# Altium integrated library Micron Memory SDRAM.IntLib: 192 symbols (part 12 of 38)
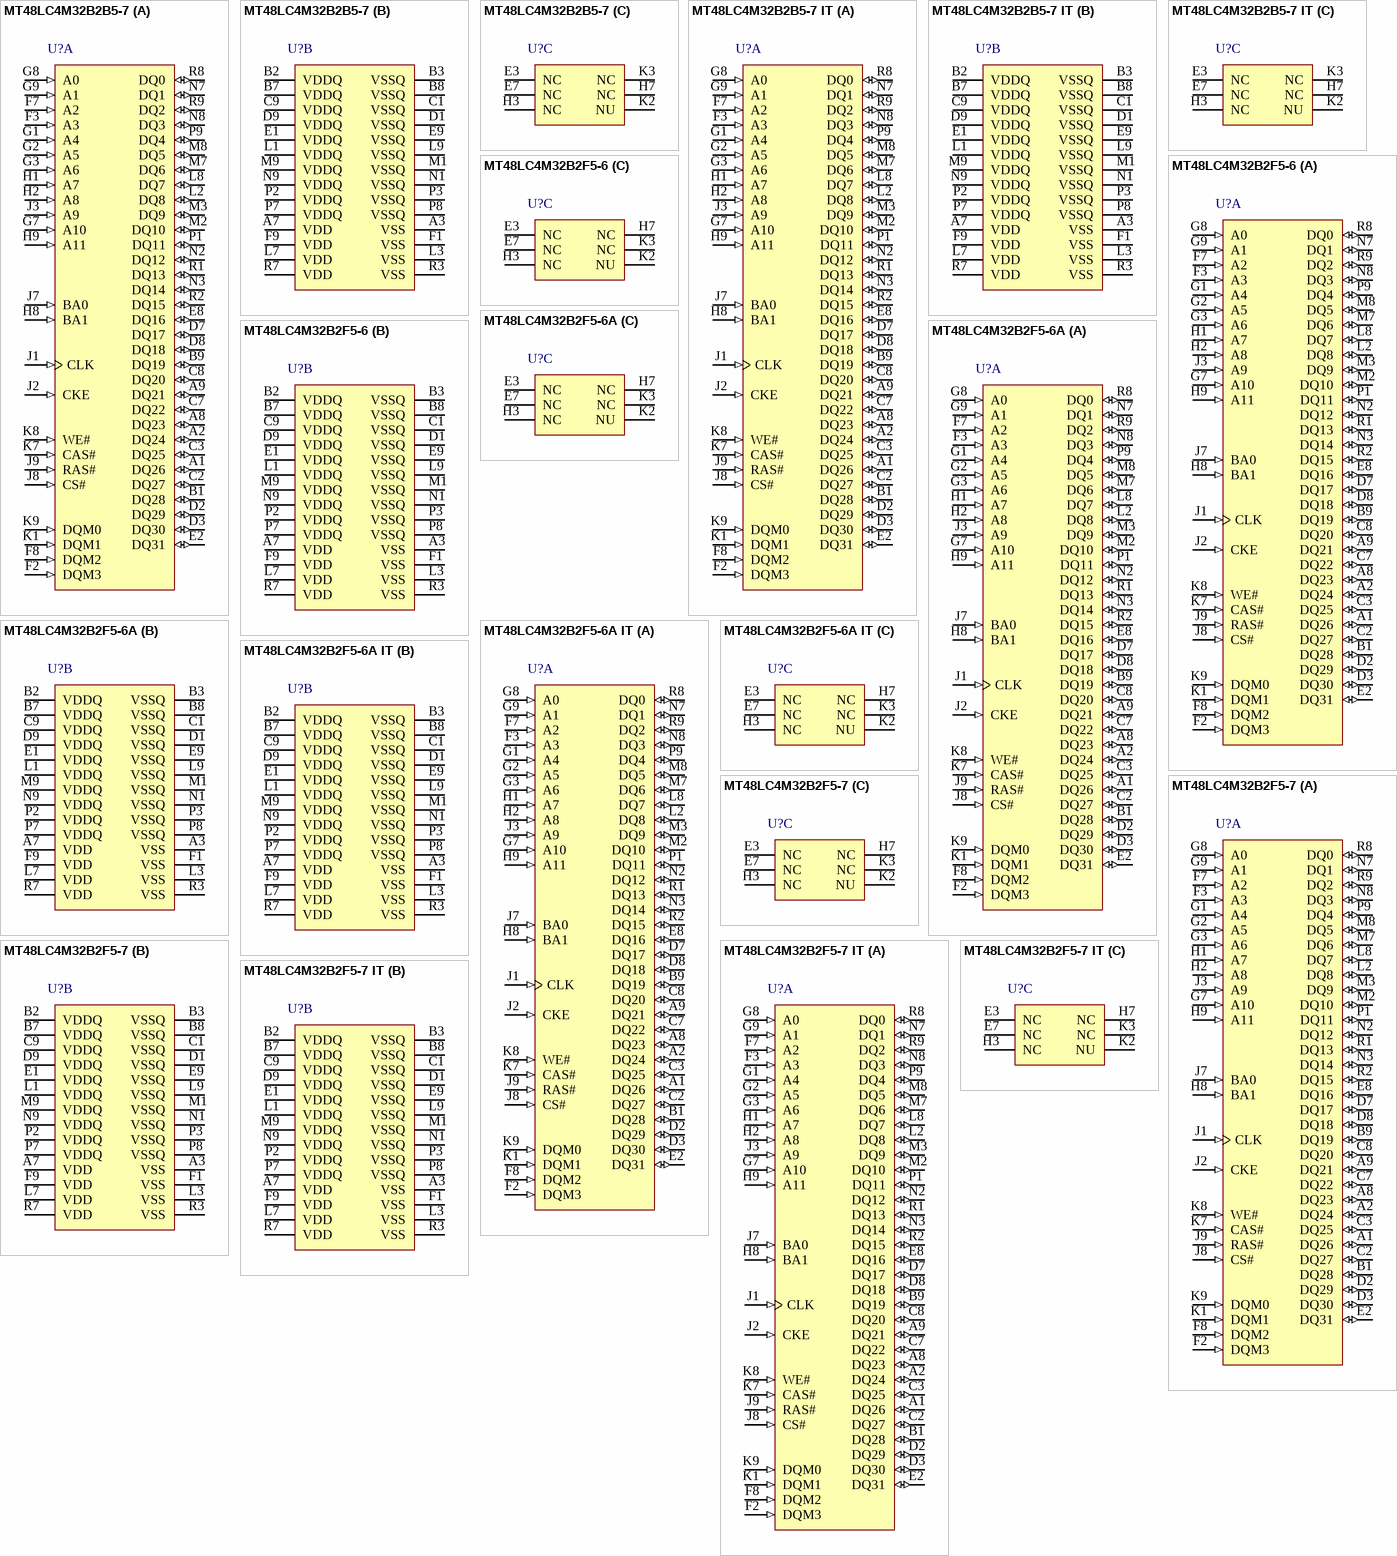
[diagram p31: symbols MT48LC4M32B2B5-7 to MT48LC4M32B2F5-7 IT]

## MT48LC4M32B2F5-6A
designator U?
128Mb PC133 SDR SDRAM, 4Mb x 32, 6ns, 3.3V, 0 to 70 degC, 90-Ball VFBGA; Manufacturer: Micron; PartNumber: MT48LC4M32B2F5-6A; CL: CL = 3; Clock Rate: 166 MHz; Op. Temp.: 0C to +70C; DatasheetVersion: Rev.Q; PackageVersion: Rev.G; PackageReference: MICT-F5-90; PackageDescription: 90-Ball Very Thin Profile Fine-Pitch Ball Grid Array, 13 x 8 mm, Pitch 0.8 mm; Cycle Time: 6ns; Data Rate: PC133; Density: 128Mb; Depth: 4Mb; RoHS: 5/6; Voltage: 3.3V; Width: x32; Mounting Technology: Surface Mount; ComponentLink1Description: Manufacturer URL; ComponentLink1URL: http://www.micron.com/; ComponentLink2Description: Datasheet; ComponentLink2URL: http://www.micron.com/~/media/Documents/Products/Data%20Sheet/DRAM/128mb_x32_sdram.pdf; ComponentLink3Description: Package Specification; ComponentLink3URL: http://www.micron.com/~/media/Documents/Products/Data%20Sheet/DRAM/128Mbx16x32Mobile.pdf
footprint MICT-F5-90 (BGA, 90-Balls, Body 13x8mm, Pitch 0.8mm)
part A pins: A1 DQ26 (io) "Data input/output: Data bus.", A2 DQ24 (io) "Data input/output: Data bus.", A8 DQ23 (io) "Data input/output: Data bus.", A9 DQ21 (io) "Data input/output: Data bus.", B1 DQ28 (io) "Data input/output: Data bus.", B9 DQ19 (io) "Data input/output: Data bus.", C2 DQ27 (io) "Data input/output: Data bus.", C3 DQ25 (io) "Data input/output: Data bus.", C7 DQ22 (io) "Data input/output: Data bus.", C8 DQ20 (io) "Data input/output: Data bus.", D2 DQ29 (io) "Data input/output: Data bus.", D3 DQ30 (io) "Data input/output: Data bus.", D7 DQ17 (io) "Data input/output: Data bus.", D8 DQ18 (io) "Data input/output: Data bus.", E2 DQ31 (io) "Data input/output: Data bus.", E8 DQ16 (io) "Data input/output: Data bus.", F2 DQM3 (in) "Input/output mask: DQM is sampled HIGH and is an input mask signal for write accesses and an output enable signal for read accesses. Input data is masked during a WRITE cycle. The output buffers are High-Z (two-clock (See Datasheet)", F3 A3 (in) "Address inputs: A[11:0] are sampled during the ACTIVE command (row address A[10:0]) and READ or WRITE command (column address A[7:0] with A10 defining auto precharge) to select one location out of the memory array in the (See Datasheet)", F7 A2 (in) "Address inputs: A[11:0] are sampled during the ACTIVE command (row address A[10:0]) and READ or WRITE command (column address A[7:0] with A10 defining auto precharge) to select one location out of the memory array in the (See Datasheet)", F8 DQM2 (in) "Input/output mask: DQM is sampled HIGH and is an input mask signal for write accesses and an output enable signal for read accesses. Input data is masked during a WRITE cycle. The output buffers are High-Z (two-clock (See Datasheet)", G1 A4 (in) "Address inputs: A[11:0] are sampled during the ACTIVE command (row address A[10:0]) and READ or WRITE command (column address A[7:0] with A10 defining auto precharge) to select one location out of the memory array in the (See Datasheet)", G2 A5 (in) "Address inputs: A[11:0] are sampled during the ACTIVE command (row address A[10:0]) and READ or WRITE command (column address A[7:0] with A10 defining auto precharge) to select one location out of the memory array in the (See Datasheet)", G3 A6 (in) "Address inputs: A[11:0] are sampled during the ACTIVE command (row address A[10:0]) and READ or WRITE command (column address A[7:0] with A10 defining auto precharge) to select one location out of the memory array in the (See Datasheet)", G7 A10 (in) "Address inputs: A[11:0] are sampled during the ACTIVE command (row address A[10:0]) and READ or WRITE command (column address A[7:0] with A10 defining auto precharge) to select one location out of the memory array in the (See Datasheet)", G8 A0 (in) "Address inputs: A[11:0] are sampled during the ACTIVE command (row address A[10:0]) and READ or WRITE command (column address A[7:0] with A10 defining auto precharge) to select one location out of the memory array in the (See Datasheet)", G9 A1 (in) "Address inputs: A[11:0] are sampled during the ACTIVE command (row address A[10:0]) and READ or WRITE command (column address A[7:0] with A10 defining auto precharge) to select one location out of the memory array in the (See Datasheet)", H1 A7 (in) "Address inputs: A[11:0] are sampled during the ACTIVE command (row address A[10:0]) and READ or WRITE command (column address A[7:0] with A10 defining auto precharge) to select one location out of the memory array in the (See Datasheet)", H2 A8 (in) "Address inputs: A[11:0] are sampled during the ACTIVE command (row address A[10:0]) and READ or WRITE command (column address A[7:0] with A10 defining auto precharge) to select one location out of the memory array in the (See Datasheet)", H8 BA1 (in) "Bank address inputs: BA[1:0] define to which bank the ACTIVE, READ, WRITE, or PRECHARGE command is being applied.", H9 A11 (in) "Address inputs: A[11:0] are sampled during the ACTIVE command (row address A[10:0]) and READ or WRITE command (column address A[7:0] with A10 defining auto precharge) to select one location out of the memory array in the (See Datasheet)", J1 CLK (in) "Clock: CLK is driven by the system clock. All SDRAM input signals are sampled on the positive edge of CLK. CLK also increments the internal burst counter and controls the output registers.", J2 CKE (in) "Clock enable: CKE activates (HIGH) and deactivates (LOW) the CLK signal. Deactivating the clock provides precharge power-down and SELF REFRESH operation (all banks idle), active power-down (row active in any bank), or CLOCK (See Datasheet)", J3 A9 (in) "Address inputs: A[11:0] are sampled during the ACTIVE command (row address A[10:0]) and READ or WRITE command (column address A[7:0] with A10 defining auto precharge) to select one location out of the memory array in the (See Datasheet)", J7 BA0 (in) "Bank address inputs: BA[1:0] define to which bank the ACTIVE, READ, WRITE, or PRECHARGE command is being applied.", J8 CS# (in) "Chip select: CS# enables (registered LOW) and disables (registered HIGH) the command decoder. All commands are masked when CS# is registered HIGH, but READ/WRITE bursts already in progress will continue, and DQM operation (See Datasheet)", J9 RAS# (in) "Command inputs: CAS#, RAS#, and WE# (along with CS#) define the command being entered.", K1 DQM1 (in) "Input/output mask: DQM is sampled HIGH and is an input mask signal for write accesses and an output enable signal for read accesses. Input data is masked during a WRITE cycle. The output buffers are High-Z (two-clock (See Datasheet)", K7 CAS# (in) "Command inputs: CAS#, RAS#, and WE# (along with CS#) define the command being entered.", K8 WE# (in) "Command inputs: CAS#, RAS#, and WE# (along with CS#) define the command being entered.", K9 DQM0 (in) "Input/output mask: DQM is sampled HIGH and is an input mask signal for write accesses and an output enable signal for read accesses. Input data is masked during a WRITE cycle. The output buffers are High-Z (two-clock (See Datasheet)", L2 DQ8 (io) "Data input/output: Data bus.", L8 DQ7 (io) "Data input/output: Data bus.", M2 DQ10 (io) "Data input/output: Data bus.", M3 DQ9 (io) "Data input/output: Data bus.", M7 DQ6 (io) "Data input/output: Data bus.", M8 DQ5 (io) "Data input/output: Data bus.", N2 DQ12 (io) "Data input/output: Data bus.", N3 DQ14 (io) "Data input/output: Data bus.", N7 DQ1 (io) "Data input/output: Data bus.", N8 DQ3 (io) "Data input/output: Data bus.", P1 DQ11 (io) "Data input/output: Data bus.", P9 DQ4 (io) "Data input/output: Data bus.", R1 DQ13 (io) "Data input/output: Data bus.", R2 DQ15 (io) "Data input/output: Data bus.", R8 DQ0 (io) "Data input/output: Data bus.", R9 DQ2 (io) "Data input/output: Data bus."
part B pins: A3 VSS (power) "Ground.", A7 VDD (power) "Power supply: 3.3V +/-0.3V.", B2 VDDQ (power) "DQ power supply: Isolated on the die for improved noise immunity.", B3 VSSQ (power) "DQ ground: Provides isolated ground to DQs for improved noise immunity.", B7 VDDQ (power) "DQ power supply: Isolated on the die for improved noise immunity.", B8 VSSQ (power) "DQ ground: Provides isolated ground to DQs for improved noise immunity.", C1 VSSQ (power) "DQ ground: Provides isolated ground to DQs for improved noise immunity.", C9 VDDQ (power) "DQ power supply: Isolated on the die for improved noise immunity.", D1 VSSQ (power) "DQ ground: Provides isolated ground to DQs for improved noise immunity.", D9 VDDQ (power) "DQ power supply: Isolated on the die for improved noise immunity.", E1 VDDQ (power) "DQ power supply: Isolated on the die for improved noise immunity.", E9 VSSQ (power) "DQ ground: Provides isolated ground to DQs for improved noise immunity.", F1 VSS (power) "Ground.", F9 VDD (power) "Power supply: 3.3V +/-0.3V.", L1 VDDQ (power) "DQ power supply: Isolated on the die for improved noise immunity.", L3 VSS (power) "Ground.", L7 VDD (power) "Power supply: 3.3V +/-0.3V.", L9 VSSQ (power) "DQ ground: Provides isolated ground to DQs for improved noise immunity.", M1 VSSQ (power) "DQ ground: Provides isolated ground to DQs for improved noise immunity.", M9 VDDQ (power) "DQ power supply: Isolated on the die for improved noise immunity.", N1 VSSQ (power) "DQ ground: Provides isolated ground to DQs for improved noise immunity.", N9 VDDQ (power) "DQ power supply: Isolated on the die for improved noise immunity.", P2 VDDQ (power) "DQ power supply: Isolated on the die for improved noise immunity.", P3 VSSQ (power) "DQ ground: Provides isolated ground to DQs for improved noise immunity.", P7 VDDQ (power) "DQ power supply: Isolated on the die for improved noise immunity.", P8 VSSQ (power) "DQ ground: Provides isolated ground to DQs for improved noise immunity.", R3 VSS (power) "Ground.", R7 VDD (power) "Power supply: 3.3V +/-0.3V."
part C pins: E3 NC "No connect: These pins should be left unconnected.", E7 NC "No connect: These pins should be left unconnected.", H3 NC "No connect: These pins should be left unconnected.", H7 NC "No connect: These pins should be left unconnected.", K2 NU "Pin 70 is reserved for SSTL reference voltage supply.", K3 NC "No connect: These pins should be left unconnected."

## MT48LC4M32B2F5-6A IT
designator U?
128Mb PC133 SDR SDRAM, 4Mb x 32, 6ns, 3.3V, -40 to 85 degC, 90-Ball VFBGA; Manufacturer: Micron; PartNumber: MT48LC4M32B2F5-6A IT; CL: CL = 3; Clock Rate: 166 MHz; Op. Temp.: -40C to +85C; DatasheetVersion: Rev.Q; PackageVersion: Rev.G; PackageReference: MICT-F5-90; PackageDescription: 90-Ball Very Thin Profile Fine-Pitch Ball Grid Array, 13 x 8 mm, Pitch 0.8 mm; Cycle Time: 6ns; Data Rate: PC133; Density: 128Mb; Depth: 4Mb; RoHS: 5/6; Voltage: 3.3V; Width: x32; Mounting Technology: Surface Mount; ComponentLink1Description: Manufacturer URL; ComponentLink1URL: http://www.micron.com/; ComponentLink2Description: Datasheet; ComponentLink2URL: http://www.micron.com/~/media/Documents/Products/Data%20Sheet/DRAM/128mb_x32_sdram.pdf; ComponentLink3Description: Package Specification; ComponentLink3URL: http://www.micron.com/~/media/Documents/Products/Data%20Sheet/DRAM/128Mbx16x32Mobile.pdf
footprint MICT-F5-90 (BGA, 90-Balls, Body 13x8mm, Pitch 0.8mm)
part A pins: A1 DQ26 (io) "Data input/output: Data bus.", A2 DQ24 (io) "Data input/output: Data bus.", A8 DQ23 (io) "Data input/output: Data bus.", A9 DQ21 (io) "Data input/output: Data bus.", B1 DQ28 (io) "Data input/output: Data bus.", B9 DQ19 (io) "Data input/output: Data bus.", C2 DQ27 (io) "Data input/output: Data bus.", C3 DQ25 (io) "Data input/output: Data bus.", C7 DQ22 (io) "Data input/output: Data bus.", C8 DQ20 (io) "Data input/output: Data bus.", D2 DQ29 (io) "Data input/output: Data bus.", D3 DQ30 (io) "Data input/output: Data bus.", D7 DQ17 (io) "Data input/output: Data bus.", D8 DQ18 (io) "Data input/output: Data bus.", E2 DQ31 (io) "Data input/output: Data bus.", E8 DQ16 (io) "Data input/output: Data bus.", F2 DQM3 (in) "Input/output mask: DQM is sampled HIGH and is an input mask signal for write accesses and an output enable signal for read accesses. Input data is masked during a WRITE cycle. The output buffers are High-Z (two-clock (See Datasheet)", F3 A3 (in) "Address inputs: A[11:0] are sampled during the ACTIVE command (row address A[10:0]) and READ or WRITE command (column address A[7:0] with A10 defining auto precharge) to select one location out of the memory array in the (See Datasheet)", F7 A2 (in) "Address inputs: A[11:0] are sampled during the ACTIVE command (row address A[10:0]) and READ or WRITE command (column address A[7:0] with A10 defining auto precharge) to select one location out of the memory array in the (See Datasheet)", F8 DQM2 (in) "Input/output mask: DQM is sampled HIGH and is an input mask signal for write accesses and an output enable signal for read accesses. Input data is masked during a WRITE cycle. The output buffers are High-Z (two-clock (See Datasheet)", G1 A4 (in) "Address inputs: A[11:0] are sampled during the ACTIVE command (row address A[10:0]) and READ or WRITE command (column address A[7:0] with A10 defining auto precharge) to select one location out of the memory array in the (See Datasheet)", G2 A5 (in) "Address inputs: A[11:0] are sampled during the ACTIVE command (row address A[10:0]) and READ or WRITE command (column address A[7:0] with A10 defining auto precharge) to select one location out of the memory array in the (See Datasheet)", G3 A6 (in) "Address inputs: A[11:0] are sampled during the ACTIVE command (row address A[10:0]) and READ or WRITE command (column address A[7:0] with A10 defining auto precharge) to select one location out of the memory array in the (See Datasheet)", G7 A10 (in) "Address inputs: A[11:0] are sampled during the ACTIVE command (row address A[10:0]) and READ or WRITE command (column address A[7:0] with A10 defining auto precharge) to select one location out of the memory array in the (See Datasheet)", G8 A0 (in) "Address inputs: A[11:0] are sampled during the ACTIVE command (row address A[10:0]) and READ or WRITE command (column address A[7:0] with A10 defining auto precharge) to select one location out of the memory array in the (See Datasheet)", G9 A1 (in) "Address inputs: A[11:0] are sampled during the ACTIVE command (row address A[10:0]) and READ or WRITE command (column address A[7:0] with A10 defining auto precharge) to select one location out of the memory array in the (See Datasheet)", H1 A7 (in) "Address inputs: A[11:0] are sampled during the ACTIVE command (row address A[10:0]) and READ or WRITE command (column address A[7:0] with A10 defining auto precharge) to select one location out of the memory array in the (See Datasheet)", H2 A8 (in) "Address inputs: A[11:0] are sampled during the ACTIVE command (row address A[10:0]) and READ or WRITE command (column address A[7:0] with A10 defining auto precharge) to select one location out of the memory array in the (See Datasheet)", H8 BA1 (in) "Bank address inputs: BA[1:0] define to which bank the ACTIVE, READ, WRITE, or PRECHARGE command is being applied.", H9 A11 (in) "Address inputs: A[11:0] are sampled during the ACTIVE command (row address A[10:0]) and READ or WRITE command (column address A[7:0] with A10 defining auto precharge) to select one location out of the memory array in the (See Datasheet)", J1 CLK (in) "Clock: CLK is driven by the system clock. All SDRAM input signals are sampled on the positive edge of CLK. CLK also increments the internal burst counter and controls the output registers.", J2 CKE (in) "Clock enable: CKE activates (HIGH) and deactivates (LOW) the CLK signal. Deactivating the clock provides precharge power-down and SELF REFRESH operation (all banks idle), active power-down (row active in any bank), or CLOCK (See Datasheet)", J3 A9 (in) "Address inputs: A[11:0] are sampled during the ACTIVE command (row address A[10:0]) and READ or WRITE command (column address A[7:0] with A10 defining auto precharge) to select one location out of the memory array in the (See Datasheet)", J7 BA0 (in) "Bank address inputs: BA[1:0] define to which bank the ACTIVE, READ, WRITE, or PRECHARGE command is being applied.", J8 CS# (in) "Chip select: CS# enables (registered LOW) and disables (registered HIGH) the command decoder. All commands are masked when CS# is registered HIGH, but READ/WRITE bursts already in progress will continue, and DQM operation (See Datasheet)", J9 RAS# (in) "Command inputs: CAS#, RAS#, and WE# (along with CS#) define the command being entered.", K1 DQM1 (in) "Input/output mask: DQM is sampled HIGH and is an input mask signal for write accesses and an output enable signal for read accesses. Input data is masked during a WRITE cycle. The output buffers are High-Z (two-clock (See Datasheet)", K7 CAS# (in) "Command inputs: CAS#, RAS#, and WE# (along with CS#) define the command being entered.", K8 WE# (in) "Command inputs: CAS#, RAS#, and WE# (along with CS#) define the command being entered.", K9 DQM0 (in) "Input/output mask: DQM is sampled HIGH and is an input mask signal for write accesses and an output enable signal for read accesses. Input data is masked during a WRITE cycle. The output buffers are High-Z (two-clock (See Datasheet)", L2 DQ8 (io) "Data input/output: Data bus.", L8 DQ7 (io) "Data input/output: Data bus.", M2 DQ10 (io) "Data input/output: Data bus.", M3 DQ9 (io) "Data input/output: Data bus.", M7 DQ6 (io) "Data input/output: Data bus.", M8 DQ5 (io) "Data input/output: Data bus.", N2 DQ12 (io) "Data input/output: Data bus.", N3 DQ14 (io) "Data input/output: Data bus.", N7 DQ1 (io) "Data input/output: Data bus.", N8 DQ3 (io) "Data input/output: Data bus.", P1 DQ11 (io) "Data input/output: Data bus.", P9 DQ4 (io) "Data input/output: Data bus.", R1 DQ13 (io) "Data input/output: Data bus.", R2 DQ15 (io) "Data input/output: Data bus.", R8 DQ0 (io) "Data input/output: Data bus.", R9 DQ2 (io) "Data input/output: Data bus."
part B pins: A3 VSS (power) "Ground.", A7 VDD (power) "Power supply: 3.3V +/-0.3V.", B2 VDDQ (power) "DQ power supply: Isolated on the die for improved noise immunity.", B3 VSSQ (power) "DQ ground: Provides isolated ground to DQs for improved noise immunity.", B7 VDDQ (power) "DQ power supply: Isolated on the die for improved noise immunity.", B8 VSSQ (power) "DQ ground: Provides isolated ground to DQs for improved noise immunity.", C1 VSSQ (power) "DQ ground: Provides isolated ground to DQs for improved noise immunity.", C9 VDDQ (power) "DQ power supply: Isolated on the die for improved noise immunity.", D1 VSSQ (power) "DQ ground: Provides isolated ground to DQs for improved noise immunity.", D9 VDDQ (power) "DQ power supply: Isolated on the die for improved noise immunity.", E1 VDDQ (power) "DQ power supply: Isolated on the die for improved noise immunity.", E9 VSSQ (power) "DQ ground: Provides isolated ground to DQs for improved noise immunity.", F1 VSS (power) "Ground.", F9 VDD (power) "Power supply: 3.3V +/-0.3V.", L1 VDDQ (power) "DQ power supply: Isolated on the die for improved noise immunity.", L3 VSS (power) "Ground.", L7 VDD (power) "Power supply: 3.3V +/-0.3V.", L9 VSSQ (power) "DQ ground: Provides isolated ground to DQs for improved noise immunity.", M1 VSSQ (power) "DQ ground: Provides isolated ground to DQs for improved noise immunity.", M9 VDDQ (power) "DQ power supply: Isolated on the die for improved noise immunity.", N1 VSSQ (power) "DQ ground: Provides isolated ground to DQs for improved noise immunity.", N9 VDDQ (power) "DQ power supply: Isolated on the die for improved noise immunity.", P2 VDDQ (power) "DQ power supply: Isolated on the die for improved noise immunity.", P3 VSSQ (power) "DQ ground: Provides isolated ground to DQs for improved noise immunity.", P7 VDDQ (power) "DQ power supply: Isolated on the die for improved noise immunity.", P8 VSSQ (power) "DQ ground: Provides isolated ground to DQs for improved noise immunity.", R3 VSS (power) "Ground.", R7 VDD (power) "Power supply: 3.3V +/-0.3V."
part C pins: E3 NC "No connect: These pins should be left unconnected.", E7 NC "No connect: These pins should be left unconnected.", H3 NC "No connect: These pins should be left unconnected.", H7 NC "No connect: These pins should be left unconnected.", K2 NU "Pin 70 is reserved for SSTL reference voltage supply.", K3 NC "No connect: These pins should be left unconnected."

## MT48LC4M32B2F5-7
designator U?
128Mb PC133 SDR SDRAM, 4Mb x 32, 7ns, 3.3V, 0 to 70 degC, 90-Ball VFBGA; Manufacturer: Micron; PartNumber: MT48LC4M32B2F5-7; CL: CL = 3; Clock Rate: 143 MHz; Op. Temp.: 0C to +70C; DatasheetVersion: Rev.Q; PackageVersion: Rev.G; PackageReference: MICT-F5-90; PackageDescription: 90-Ball Very Thin Profile Fine-Pitch Ball Grid Array, 13 x 8 mm, Pitch 0.8 mm; Cycle Time: 7ns; Data Rate: PC133; Density: 128Mb; Depth: 4Mb; RoHS: 5/6; Voltage: 3.3V; Width: x32; Mounting Technology: Surface Mount; ComponentLink1Description: Manufacturer URL; ComponentLink1URL: http://www.micron.com/; ComponentLink2Description: Datasheet; ComponentLink2URL: http://www.micron.com/~/media/Documents/Products/Data%20Sheet/DRAM/128mb_x32_sdram.pdf; ComponentLink3Description: Package Specification; ComponentLink3URL: http://www.micron.com/~/media/Documents/Products/Data%20Sheet/DRAM/128Mbx16x32Mobile.pdf
footprint MICT-F5-90 (BGA, 90-Balls, Body 13x8mm, Pitch 0.8mm)
part A pins: A1 DQ26 (io) "Data input/output: Data bus.", A2 DQ24 (io) "Data input/output: Data bus.", A8 DQ23 (io) "Data input/output: Data bus.", A9 DQ21 (io) "Data input/output: Data bus.", B1 DQ28 (io) "Data input/output: Data bus.", B9 DQ19 (io) "Data input/output: Data bus.", C2 DQ27 (io) "Data input/output: Data bus.", C3 DQ25 (io) "Data input/output: Data bus.", C7 DQ22 (io) "Data input/output: Data bus.", C8 DQ20 (io) "Data input/output: Data bus.", D2 DQ29 (io) "Data input/output: Data bus.", D3 DQ30 (io) "Data input/output: Data bus.", D7 DQ17 (io) "Data input/output: Data bus.", D8 DQ18 (io) "Data input/output: Data bus.", E2 DQ31 (io) "Data input/output: Data bus.", E8 DQ16 (io) "Data input/output: Data bus.", F2 DQM3 (in) "Input/output mask: DQM is sampled HIGH and is an input mask signal for write accesses and an output enable signal for read accesses. Input data is masked during a WRITE cycle. The output buffers are High-Z (two-clock (See Datasheet)", F3 A3 (in) "Address inputs: A[11:0] are sampled during the ACTIVE command (row address A[10:0]) and READ or WRITE command (column address A[7:0] with A10 defining auto precharge) to select one location out of the memory array in the (See Datasheet)", F7 A2 (in) "Address inputs: A[11:0] are sampled during the ACTIVE command (row address A[10:0]) and READ or WRITE command (column address A[7:0] with A10 defining auto precharge) to select one location out of the memory array in the (See Datasheet)", F8 DQM2 (in) "Input/output mask: DQM is sampled HIGH and is an input mask signal for write accesses and an output enable signal for read accesses. Input data is masked during a WRITE cycle. The output buffers are High-Z (two-clock (See Datasheet)", G1 A4 (in) "Address inputs: A[11:0] are sampled during the ACTIVE command (row address A[10:0]) and READ or WRITE command (column address A[7:0] with A10 defining auto precharge) to select one location out of the memory array in the (See Datasheet)", G2 A5 (in) "Address inputs: A[11:0] are sampled during the ACTIVE command (row address A[10:0]) and READ or WRITE command (column address A[7:0] with A10 defining auto precharge) to select one location out of the memory array in the (See Datasheet)", G3 A6 (in) "Address inputs: A[11:0] are sampled during the ACTIVE command (row address A[10:0]) and READ or WRITE command (column address A[7:0] with A10 defining auto precharge) to select one location out of the memory array in the (See Datasheet)", G7 A10 (in) "Address inputs: A[11:0] are sampled during the ACTIVE command (row address A[10:0]) and READ or WRITE command (column address A[7:0] with A10 defining auto precharge) to select one location out of the memory array in the (See Datasheet)", G8 A0 (in) "Address inputs: A[11:0] are sampled during the ACTIVE command (row address A[10:0]) and READ or WRITE command (column address A[7:0] with A10 defining auto precharge) to select one location out of the memory array in the (See Datasheet)", G9 A1 (in) "Address inputs: A[11:0] are sampled during the ACTIVE command (row address A[10:0]) and READ or WRITE command (column address A[7:0] with A10 defining auto precharge) to select one location out of the memory array in the (See Datasheet)", H1 A7 (in) "Address inputs: A[11:0] are sampled during the ACTIVE command (row address A[10:0]) and READ or WRITE command (column address A[7:0] with A10 defining auto precharge) to select one location out of the memory array in the (See Datasheet)", H2 A8 (in) "Address inputs: A[11:0] are sampled during the ACTIVE command (row address A[10:0]) and READ or WRITE command (column address A[7:0] with A10 defining auto precharge) to select one location out of the memory array in the (See Datasheet)", H8 BA1 (in) "Bank address inputs: BA[1:0] define to which bank the ACTIVE, READ, WRITE, or PRECHARGE command is being applied.", H9 A11 (in) "Address inputs: A[11:0] are sampled during the ACTIVE command (row address A[10:0]) and READ or WRITE command (column address A[7:0] with A10 defining auto precharge) to select one location out of the memory array in the (See Datasheet)", J1 CLK (in) "Clock: CLK is driven by the system clock. All SDRAM input signals are sampled on the positive edge of CLK. CLK also increments the internal burst counter and controls the output registers.", J2 CKE (in) "Clock enable: CKE activates (HIGH) and deactivates (LOW) the CLK signal. Deactivating the clock provides precharge power-down and SELF REFRESH operation (all banks idle), active power-down (row active in any bank), or CLOCK (See Datasheet)", J3 A9 (in) "Address inputs: A[11:0] are sampled during the ACTIVE command (row address A[10:0]) and READ or WRITE command (column address A[7:0] with A10 defining auto precharge) to select one location out of the memory array in the (See Datasheet)", J7 BA0 (in) "Bank address inputs: BA[1:0] define to which bank the ACTIVE, READ, WRITE, or PRECHARGE command is being applied.", J8 CS# (in) "Chip select: CS# enables (registered LOW) and disables (registered HIGH) the command decoder. All commands are masked when CS# is registered HIGH, but READ/WRITE bursts already in progress will continue, and DQM operation (See Datasheet)", J9 RAS# (in) "Command inputs: CAS#, RAS#, and WE# (along with CS#) define the command being entered.", K1 DQM1 (in) "Input/output mask: DQM is sampled HIGH and is an input mask signal for write accesses and an output enable signal for read accesses. Input data is masked during a WRITE cycle. The output buffers are High-Z (two-clock (See Datasheet)", K7 CAS# (in) "Command inputs: CAS#, RAS#, and WE# (along with CS#) define the command being entered.", K8 WE# (in) "Command inputs: CAS#, RAS#, and WE# (along with CS#) define the command being entered.", K9 DQM0 (in) "Input/output mask: DQM is sampled HIGH and is an input mask signal for write accesses and an output enable signal for read accesses. Input data is masked during a WRITE cycle. The output buffers are High-Z (two-clock (See Datasheet)", L2 DQ8 (io) "Data input/output: Data bus.", L8 DQ7 (io) "Data input/output: Data bus.", M2 DQ10 (io) "Data input/output: Data bus.", M3 DQ9 (io) "Data input/output: Data bus.", M7 DQ6 (io) "Data input/output: Data bus.", M8 DQ5 (io) "Data input/output: Data bus.", N2 DQ12 (io) "Data input/output: Data bus.", N3 DQ14 (io) "Data input/output: Data bus.", N7 DQ1 (io) "Data input/output: Data bus.", N8 DQ3 (io) "Data input/output: Data bus.", P1 DQ11 (io) "Data input/output: Data bus.", P9 DQ4 (io) "Data input/output: Data bus.", R1 DQ13 (io) "Data input/output: Data bus.", R2 DQ15 (io) "Data input/output: Data bus.", R8 DQ0 (io) "Data input/output: Data bus.", R9 DQ2 (io) "Data input/output: Data bus."
part B pins: A3 VSS (power) "Ground.", A7 VDD (power) "Power supply: 3.3V +/-0.3V.", B2 VDDQ (power) "DQ power supply: Isolated on the die for improved noise immunity.", B3 VSSQ (power) "DQ ground: Provides isolated ground to DQs for improved noise immunity.", B7 VDDQ (power) "DQ power supply: Isolated on the die for improved noise immunity.", B8 VSSQ (power) "DQ ground: Provides isolated ground to DQs for improved noise immunity.", C1 VSSQ (power) "DQ ground: Provides isolated ground to DQs for improved noise immunity.", C9 VDDQ (power) "DQ power supply: Isolated on the die for improved noise immunity.", D1 VSSQ (power) "DQ ground: Provides isolated ground to DQs for improved noise immunity.", D9 VDDQ (power) "DQ power supply: Isolated on the die for improved noise immunity.", E1 VDDQ (power) "DQ power supply: Isolated on the die for improved noise immunity.", E9 VSSQ (power) "DQ ground: Provides isolated ground to DQs for improved noise immunity.", F1 VSS (power) "Ground.", F9 VDD (power) "Power supply: 3.3V +/-0.3V.", L1 VDDQ (power) "DQ power supply: Isolated on the die for improved noise immunity.", L3 VSS (power) "Ground.", L7 VDD (power) "Power supply: 3.3V +/-0.3V.", L9 VSSQ (power) "DQ ground: Provides isolated ground to DQs for improved noise immunity.", M1 VSSQ (power) "DQ ground: Provides isolated ground to DQs for improved noise immunity.", M9 VDDQ (power) "DQ power supply: Isolated on the die for improved noise immunity.", N1 VSSQ (power) "DQ ground: Provides isolated ground to DQs for improved noise immunity.", N9 VDDQ (power) "DQ power supply: Isolated on the die for improved noise immunity.", P2 VDDQ (power) "DQ power supply: Isolated on the die for improved noise immunity.", P3 VSSQ (power) "DQ ground: Provides isolated ground to DQs for improved noise immunity.", P7 VDDQ (power) "DQ power supply: Isolated on the die for improved noise immunity.", P8 VSSQ (power) "DQ ground: Provides isolated ground to DQs for improved noise immunity.", R3 VSS (power) "Ground.", R7 VDD (power) "Power supply: 3.3V +/-0.3V."
part C pins: E3 NC "No connect: These pins should be left unconnected.", E7 NC "No connect: These pins should be left unconnected.", H3 NC "No connect: These pins should be left unconnected.", H7 NC "No connect: These pins should be left unconnected.", K2 NU "Pin 70 is reserved for SSTL reference voltage supply.", K3 NC "No connect: These pins should be left unconnected."

## MT48LC4M32B2F5-7 IT
designator U?
128Mb PC133 SDR SDRAM, 4Mb x 32, 7ns, 3.3V, -40 to 85 degC, 90-Ball VFBGA; Manufacturer: Micron; PartNumber: MT48LC4M32B2F5-7 IT; CL: CL = 3; Clock Rate: 143 MHz; Op. Temp.: -40C to +85C; DatasheetVersion: Rev.Q; PackageVersion: Rev.G; PackageReference: MICT-F5-90; PackageDescription: 90-Ball Very Thin Profile Fine-Pitch Ball Grid Array, 13 x 8 mm, Pitch 0.8 mm; Cycle Time: 7ns; Data Rate: PC133; Density: 128Mb; Depth: 4Mb; RoHS: 5/6; Voltage: 3.3V; Width: x32; Mounting Technology: Surface Mount; ComponentLink1Description: Manufacturer URL; ComponentLink1URL: http://www.micron.com/; ComponentLink2Description: Datasheet; ComponentLink2URL: http://www.micron.com/~/media/Documents/Products/Data%20Sheet/DRAM/128mb_x32_sdram.pdf; ComponentLink3Description: Package Specification; ComponentLink3URL: http://www.micron.com/~/media/Documents/Products/Data%20Sheet/DRAM/128Mbx16x32Mobile.pdf
footprint MICT-F5-90 (BGA, 90-Balls, Body 13x8mm, Pitch 0.8mm)
part A pins: A1 DQ26 (io) "Data input/output: Data bus.", A2 DQ24 (io) "Data input/output: Data bus.", A8 DQ23 (io) "Data input/output: Data bus.", A9 DQ21 (io) "Data input/output: Data bus.", B1 DQ28 (io) "Data input/output: Data bus.", B9 DQ19 (io) "Data input/output: Data bus.", C2 DQ27 (io) "Data input/output: Data bus.", C3 DQ25 (io) "Data input/output: Data bus.", C7 DQ22 (io) "Data input/output: Data bus.", C8 DQ20 (io) "Data input/output: Data bus.", D2 DQ29 (io) "Data input/output: Data bus.", D3 DQ30 (io) "Data input/output: Data bus.", D7 DQ17 (io) "Data input/output: Data bus.", D8 DQ18 (io) "Data input/output: Data bus.", E2 DQ31 (io) "Data input/output: Data bus.", E8 DQ16 (io) "Data input/output: Data bus.", F2 DQM3 (in) "Input/output mask: DQM is sampled HIGH and is an input mask signal for write accesses and an output enable signal for read accesses. Input data is masked during a WRITE cycle. The output buffers are High-Z (two-clock (See Datasheet)", F3 A3 (in) "Address inputs: A[11:0] are sampled during the ACTIVE command (row address A[10:0]) and READ or WRITE command (column address A[7:0] with A10 defining auto precharge) to select one location out of the memory array in the (See Datasheet)", F7 A2 (in) "Address inputs: A[11:0] are sampled during the ACTIVE command (row address A[10:0]) and READ or WRITE command (column address A[7:0] with A10 defining auto precharge) to select one location out of the memory array in the (See Datasheet)", F8 DQM2 (in) "Input/output mask: DQM is sampled HIGH and is an input mask signal for write accesses and an output enable signal for read accesses. Input data is masked during a WRITE cycle. The output buffers are High-Z (two-clock (See Datasheet)", G1 A4 (in) "Address inputs: A[11:0] are sampled during the ACTIVE command (row address A[10:0]) and READ or WRITE command (column address A[7:0] with A10 defining auto precharge) to select one location out of the memory array in the (See Datasheet)", G2 A5 (in) "Address inputs: A[11:0] are sampled during the ACTIVE command (row address A[10:0]) and READ or WRITE command (column address A[7:0] with A10 defining auto precharge) to select one location out of the memory array in the (See Datasheet)", G3 A6 (in) "Address inputs: A[11:0] are sampled during the ACTIVE command (row address A[10:0]) and READ or WRITE command (column address A[7:0] with A10 defining auto precharge) to select one location out of the memory array in the (See Datasheet)", G7 A10 (in) "Address inputs: A[11:0] are sampled during the ACTIVE command (row address A[10:0]) and READ or WRITE command (column address A[7:0] with A10 defining auto precharge) to select one location out of the memory array in the (See Datasheet)", G8 A0 (in) "Address inputs: A[11:0] are sampled during the ACTIVE command (row address A[10:0]) and READ or WRITE command (column address A[7:0] with A10 defining auto precharge) to select one location out of the memory array in the (See Datasheet)", G9 A1 (in) "Address inputs: A[11:0] are sampled during the ACTIVE command (row address A[10:0]) and READ or WRITE command (column address A[7:0] with A10 defining auto precharge) to select one location out of the memory array in the (See Datasheet)", H1 A7 (in) "Address inputs: A[11:0] are sampled during the ACTIVE command (row address A[10:0]) and READ or WRITE command (column address A[7:0] with A10 defining auto precharge) to select one location out of the memory array in the (See Datasheet)", H2 A8 (in) "Address inputs: A[11:0] are sampled during the ACTIVE command (row address A[10:0]) and READ or WRITE command (column address A[7:0] with A10 defining auto precharge) to select one location out of the memory array in the (See Datasheet)", H8 BA1 (in) "Bank address inputs: BA[1:0] define to which bank the ACTIVE, READ, WRITE, or PRECHARGE command is being applied.", H9 A11 (in) "Address inputs: A[11:0] are sampled during the ACTIVE command (row address A[10:0]) and READ or WRITE command (column address A[7:0] with A10 defining auto precharge) to select one location out of the memory array in the (See Datasheet)", J1 CLK (in) "Clock: CLK is driven by the system clock. All SDRAM input signals are sampled on the positive edge of CLK. CLK also increments the internal burst counter and controls the output registers.", J2 CKE (in) "Clock enable: CKE activates (HIGH) and deactivates (LOW) the CLK signal. Deactivating the clock provides precharge power-down and SELF REFRESH operation (all banks idle), active power-down (row active in any bank), or CLOCK (See Datasheet)", J3 A9 (in) "Address inputs: A[11:0] are sampled during the ACTIVE command (row address A[10:0]) and READ or WRITE command (column address A[7:0] with A10 defining auto precharge) to select one location out of the memory array in the (See Datasheet)", J7 BA0 (in) "Bank address inputs: BA[1:0] define to which bank the ACTIVE, READ, WRITE, or PRECHARGE command is being applied.", J8 CS# (in) "Chip select: CS# enables (registered LOW) and disables (registered HIGH) the command decoder. All commands are masked when CS# is registered HIGH, but READ/WRITE bursts already in progress will continue, and DQM operation (See Datasheet)", J9 RAS# (in) "Command inputs: CAS#, RAS#, and WE# (along with CS#) define the command being entered.", K1 DQM1 (in) "Input/output mask: DQM is sampled HIGH and is an input mask signal for write accesses and an output enable signal for read accesses. Input data is masked during a WRITE cycle. The output buffers are High-Z (two-clock (See Datasheet)", K7 CAS# (in) "Command inputs: CAS#, RAS#, and WE# (along with CS#) define the command being entered.", K8 WE# (in) "Command inputs: CAS#, RAS#, and WE# (along with CS#) define the command being entered.", K9 DQM0 (in) "Input/output mask: DQM is sampled HIGH and is an input mask signal for write accesses and an output enable signal for read accesses. Input data is masked during a WRITE cycle. The output buffers are High-Z (two-clock (See Datasheet)", L2 DQ8 (io) "Data input/output: Data bus.", L8 DQ7 (io) "Data input/output: Data bus.", M2 DQ10 (io) "Data input/output: Data bus.", M3 DQ9 (io) "Data input/output: Data bus.", M7 DQ6 (io) "Data input/output: Data bus.", M8 DQ5 (io) "Data input/output: Data bus.", N2 DQ12 (io) "Data input/output: Data bus.", N3 DQ14 (io) "Data input/output: Data bus.", N7 DQ1 (io) "Data input/output: Data bus.", N8 DQ3 (io) "Data input/output: Data bus.", P1 DQ11 (io) "Data input/output: Data bus.", P9 DQ4 (io) "Data input/output: Data bus.", R1 DQ13 (io) "Data input/output: Data bus.", R2 DQ15 (io) "Data input/output: Data bus.", R8 DQ0 (io) "Data input/output: Data bus.", R9 DQ2 (io) "Data input/output: Data bus."
part B pins: A3 VSS (power) "Ground.", A7 VDD (power) "Power supply: 3.3V +/-0.3V.", B2 VDDQ (power) "DQ power supply: Isolated on the die for improved noise immunity.", B3 VSSQ (power) "DQ ground: Provides isolated ground to DQs for improved noise immunity.", B7 VDDQ (power) "DQ power supply: Isolated on the die for improved noise immunity.", B8 VSSQ (power) "DQ ground: Provides isolated ground to DQs for improved noise immunity.", C1 VSSQ (power) "DQ ground: Provides isolated ground to DQs for improved noise immunity.", C9 VDDQ (power) "DQ power supply: Isolated on the die for improved noise immunity.", D1 VSSQ (power) "DQ ground: Provides isolated ground to DQs for improved noise immunity.", D9 VDDQ (power) "DQ power supply: Isolated on the die for improved noise immunity.", E1 VDDQ (power) "DQ power supply: Isolated on the die for improved noise immunity.", E9 VSSQ (power) "DQ ground: Provides isolated ground to DQs for improved noise immunity.", F1 VSS (power) "Ground.", F9 VDD (power) "Power supply: 3.3V +/-0.3V.", L1 VDDQ (power) "DQ power supply: Isolated on the die for improved noise immunity.", L3 VSS (power) "Ground.", L7 VDD (power) "Power supply: 3.3V +/-0.3V.", L9 VSSQ (power) "DQ ground: Provides isolated ground to DQs for improved noise immunity.", M1 VSSQ (power) "DQ ground: Provides isolated ground to DQs for improved noise immunity.", M9 VDDQ (power) "DQ power supply: Isolated on the die for improved noise immunity.", N1 VSSQ (power) "DQ ground: Provides isolated ground to DQs for improved noise immunity.", N9 VDDQ (power) "DQ power supply: Isolated on the die for improved noise immunity.", P2 VDDQ (power) "DQ power supply: Isolated on the die for improved noise immunity.", P3 VSSQ (power) "DQ ground: Provides isolated ground to DQs for improved noise immunity.", P7 VDDQ (power) "DQ power supply: Isolated on the die for improved noise immunity.", P8 VSSQ (power) "DQ ground: Provides isolated ground to DQs for improved noise immunity.", R3 VSS (power) "Ground.", R7 VDD (power) "Power supply: 3.3V +/-0.3V."
part C pins: E3 NC "No connect: These pins should be left unconnected.", E7 NC "No connect: These pins should be left unconnected.", H3 NC "No connect: These pins should be left unconnected.", H7 NC "No connect: These pins should be left unconnected.", K2 NU "Pin 70 is reserved for SSTL reference voltage supply.", K3 NC "No connect: These pins should be left unconnected."

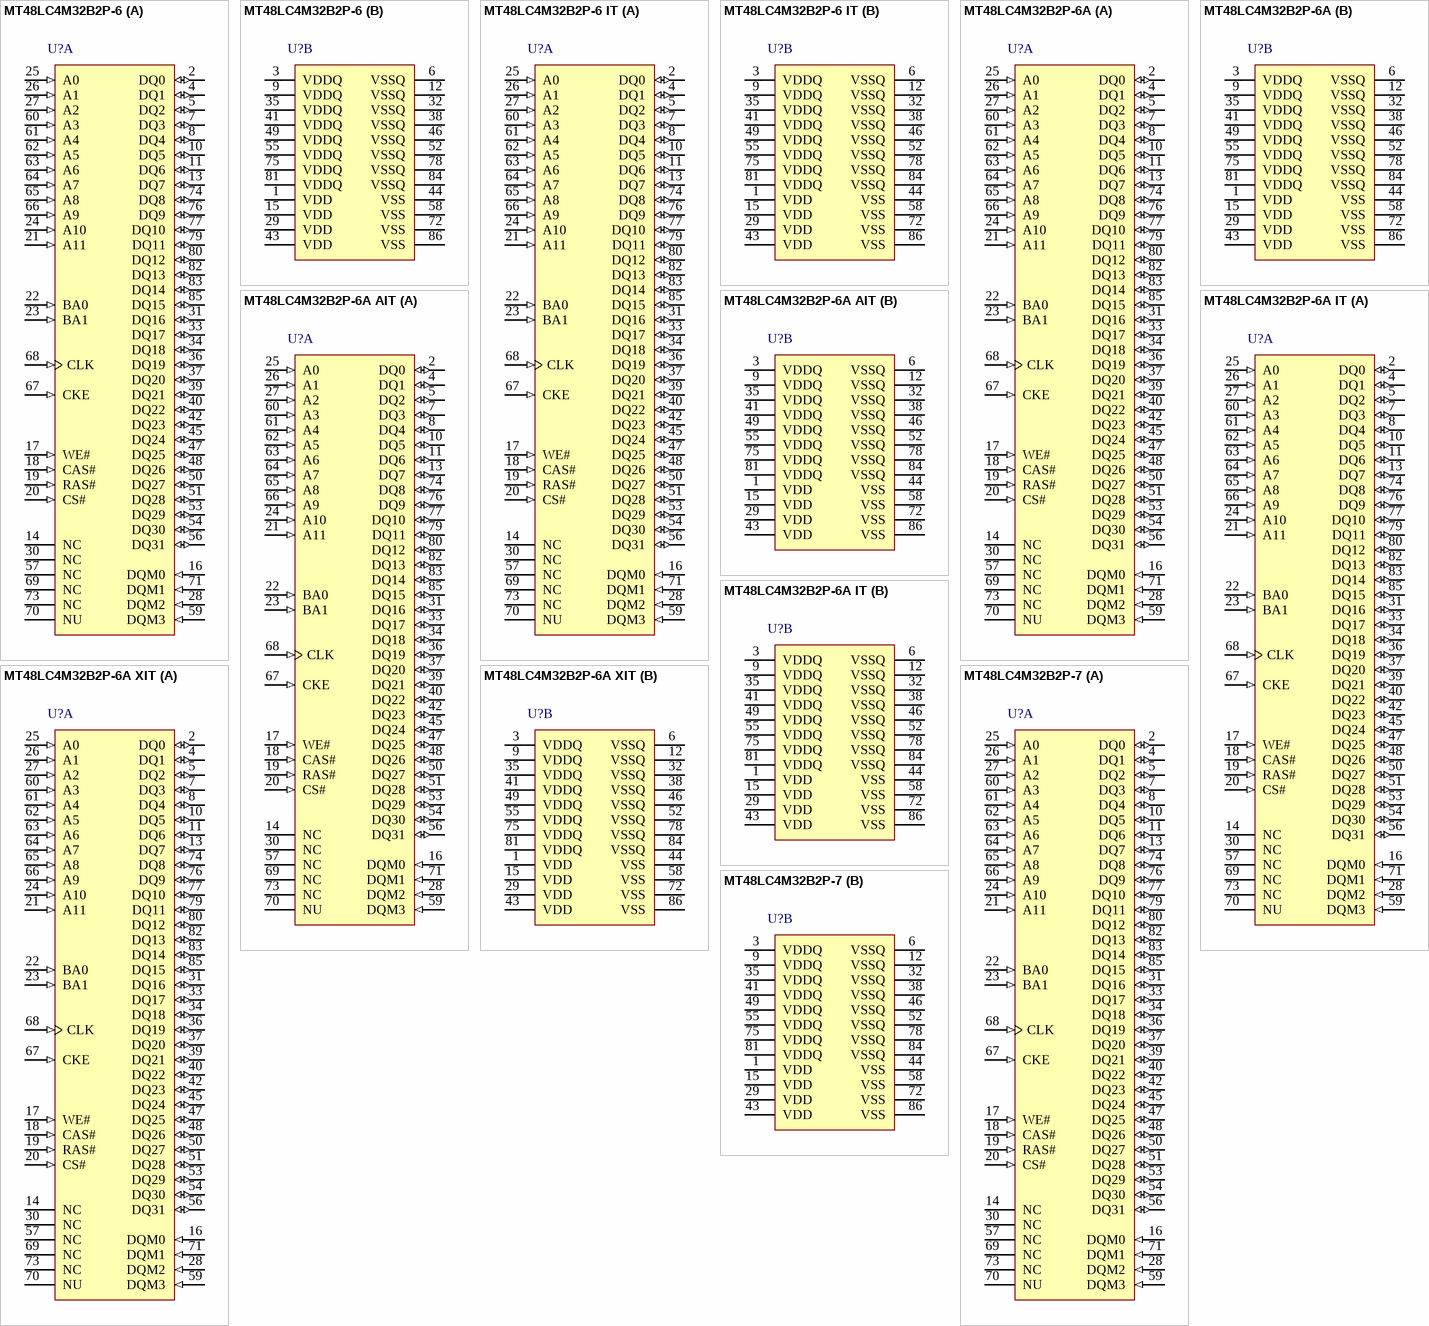
[diagram p7: symbols MT48LC4M32B2P-6 to MT48LC4M32B2P-7]